# Altium footprint library ertc_footprints.PcbLib: 12 footprints
Each footprint in its own frame and in the unit in brackets; x right, y up, seen from the top. Pads: shape width x height; smd on the part's side, far side on the other; paste and mask are expansions set on the pad; w line width, h text height; cw(c..) or ccw(c..) is an arc to the next point about the centre after c.
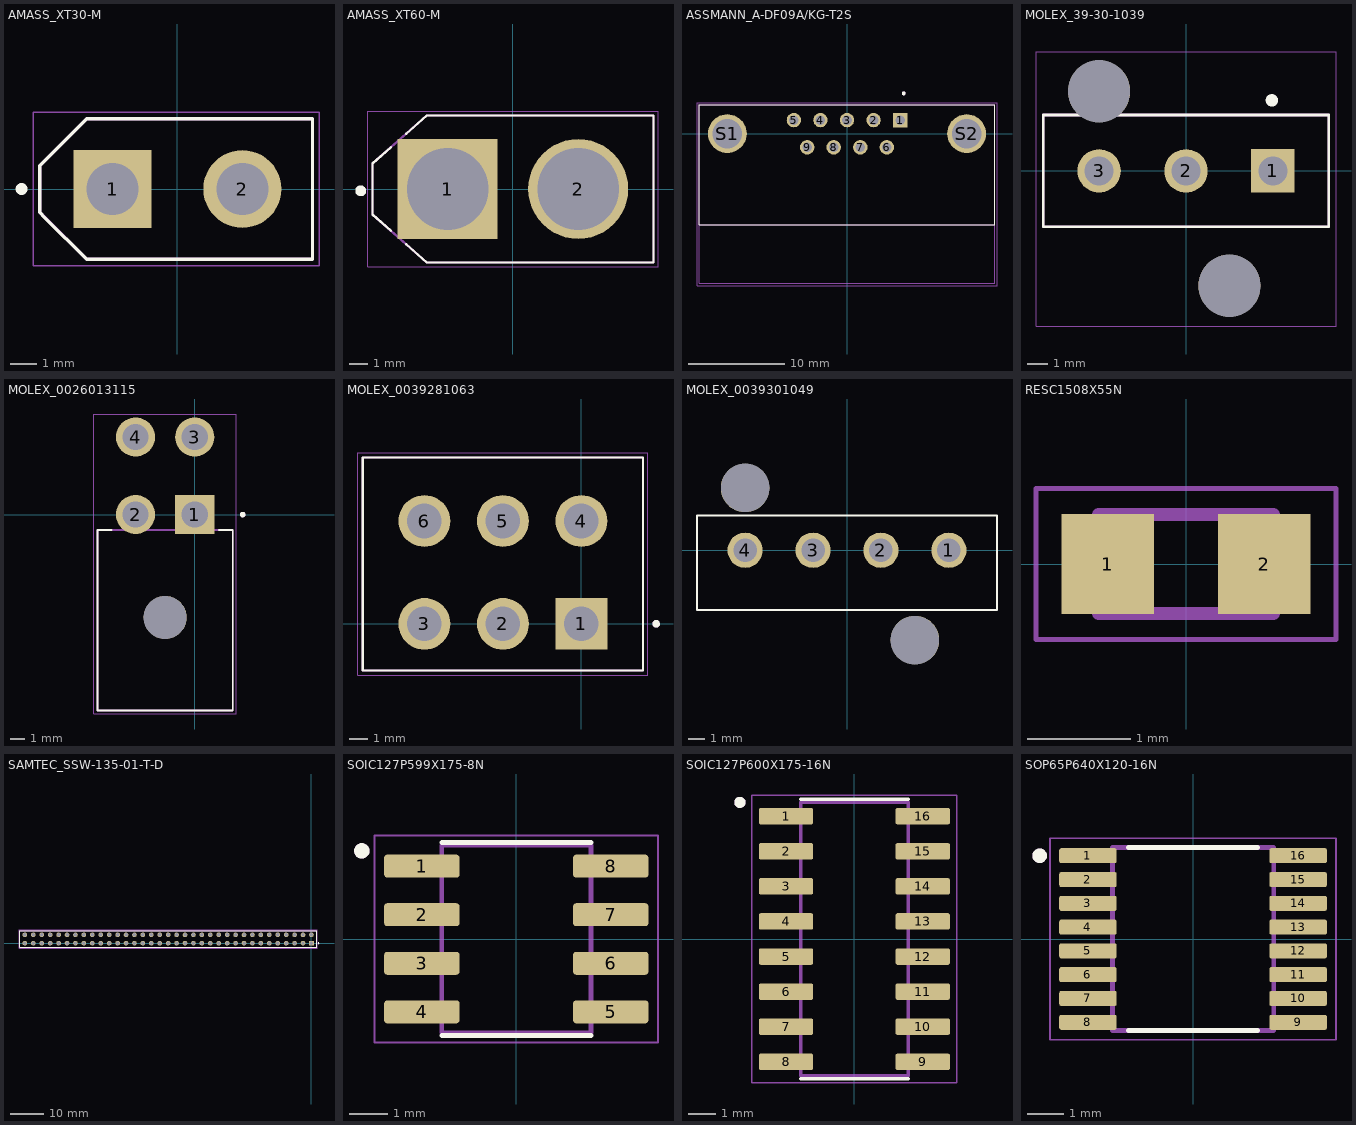
[diagram p0: the footprints below, top view; thin cyan lines are the x and y axes]

## AMASS_XT30-M [mm]
pads (2):
  rect 3x3 hole 2: 1(-2.5,0)
  round 3 hole 2: 2(2.5,0)
Top Overlay:
  circle w0.254: c-6,0 r0.1
  lines w0.127: -5.3,-0.9 -5.3,0.9 -3.5,2.7 5.2,2.7 5.2,-2.7 -3.5,-2.7 -5.1,-1.1 -5.3,-0.9
Mechanical 13:
  lines w0.127: -5.3,-0.9 -5.3,0.9 -3.5,2.7 5.2,2.7 5.2,-2.7 -3.5,-2.7 -5.3,-0.9
Mechanical 15:
  lines w0.05: -5.55,-2.95 -5.55,2.95 5.45,2.95 5.45,-2.95 -5.55,-2.95

## AMASS_XT60-M [mm]
pads (2):
  rect 5.516x5.516 hole 4.5: 1(-3.6,0)
  round 5.516 hole 4.5: 2(3.6,0)
Top Overlay:
  circle w0.3: c-8.4,-0.1 r0.15
  lines w0.127: -6.73,-2.3 -7.75,-1.4 -7.75,1.4 -6.73,2.3 ; -5.88,-3.05 -4.75,-4.05 7.75,-4.05 7.75,4.05 -4.75,4.05 -5.88,3.05
Mechanical 13:
  lines w0.127: -7.75,-1.4 -7.75,1.4 -4.75,4.05 7.75,4.05 7.75,-4.05 -4.75,-4.05 -7.75,-1.4
Mechanical 15:
  lines w0.05: -8,-4.3 -8,4.3 8,4.3 8,-4.3 -8,-4.3

## ASSMANN_A-DF09A/KG-T2S [mm]
pads (11):
  rect 1.508x1.508 hole 1: 1(5.54,1.42)
  round 1.508 hole 1: 2(2.77,1.42) 3(0,1.42) 4(-2.77,1.42) 5(-5.54,1.42) 6(4.155,-1.42) 7(1.385,-1.42) 8(-1.385,-1.42) 9(-4.155,-1.42)
  round 4.066 hole 3.05: S1(-12.495,0) S2(12.495,0)
Top Overlay:
  circle w0.2: c5.92,4.2 r0.1
  lines w0.127: -15.405,-9.5 -15.405,3 15.405,3 15.405,-9.5 -15.405,-9.5
Mechanical 13:
  circle w0.2: c5.92,4.2 r0.1
  lines w0.127: -15.405,-9.5 15.405,-9.5 ; -15.405,-15.6 -15.405,3 15.405,3 15.405,-15.6 -15.405,-15.6
Mechanical 15:
  lines w0.05: -15.655,-15.85 -15.655,3.25 15.655,3.25 15.655,-15.85 -15.655,-15.85
3D body "step_temp.STEP": height 12.55, standoff -4.33, extent -15.405,-15.32 15.405,2.98

## MOLEX_39-30-1039 [mm]
pads (5):
  rect 2.1x2.1 hole 1.4: 1(4.2,0)
  round 2.1 hole 1.4: 2(0,0) 3(-4.2,0)
  round 3 hole 3 unplated: ""(-4.2,3.85) ""(2.1,-5.55)
Top Overlay:
  circle w0.3: c4.15,3.41 r0.15
  lines w0.127: -6.9,-2.7 6.9,-2.7 6.9,2.7 -6.9,2.7 -6.9,-2.7
Mechanical 13:
  lines w0.127: -6.9,-2.7 6.9,-2.7 6.9,2.7 -6.9,2.7 -6.9,-2.7
Mechanical 15:
  lines w0.05: -7.25,-7.5 7.25,-7.5 7.25,5.75 -7.25,5.75 -7.25,-7.5
3D body "39-30-1039.stp": height 12.45, standoff -3.5, extent -6.9,-6.631 6.9,4.928

## MOLEX_0026013115 [mm]
pads (5):
  rect 2.775x2.775 hole 1.85: 1(0,0)
  round 2.775 hole 1.85: 2(-4.2,0) 3(0,5.5) 4(-4.2,5.5)
  round 3.05 hole 3.05 unplated: ""(-2.1,-7.3)
Top Overlay:
  circle w0.2: c3.4,0 r0.1
  lines w0.127: -5.91,-1.1 -6.9,-1.1 -6.9,-13.9 2.7,-13.9 2.7,-1.1 1.71,-1.1
Mechanical 13:
  circle w0.2: c3.4,0 r0.1
  lines w0.127: -6.9,-13.9 -6.9,-1.1 2.7,-1.1 2.7,-13.9 -6.9,-13.9
Mechanical 15:
  lines w0.05: -7.15,-14.15 -7.15,7.14 2.95,7.14 2.95,-14.15 -7.15,-14.15
3D body "0026013115--3DModel-STEP-56544.STEP": height 11.4, standoff -4.36, extent -7.108,-13.894 2.892,6.041

## MOLEX_0039281063 [mm]
pads (6):
  rect 2.775x2.775 hole 1.85: 1(0,0)
  round 2.775 hole 1.85: 2(-4.2,0) 3(-8.4,0) 4(0,5.5) 5(-4.2,5.5) 6(-8.4,5.5)
Top Overlay:
  lines w0.127: -11.7,-2.5 -11.7,8.9 3.3,8.9 3.3,-2.5 -11.7,-2.5
  lines w0.2: 4.089,0.045 ccw(c4,0) 4.1,0
Mechanical 13:
  circle w0.2: c4,0 r0.1
  lines w0.127: -11.7,-2.5 3.3,-2.5 3.3,8.9 -11.7,8.9 -11.7,-2.5
Mechanical 15:
  lines w0.05: -11.95,-2.75 -11.95,9.15 3.55,9.15 3.55,-2.75 -11.95,-2.75
3D body "39281063--3DModel-STEP-390490.STEP": height 12.8, standoff -3.5, extent -11.5,-2.3 3.1,8.7

## MOLEX_0039301049 [mm]
pads (6):
  round 2.175 hole 1.45: 1(6.3,0) 2(2.1,0) 3(-2.1,0) 4(-6.3,0)
  round 3 hole 3 unplated: ""(-6.3,3.85) ""(4.2,-5.55)
Top Overlay:
  lines w0.127: -9.271,-3.683 9.271,-3.683 9.271,2.159 -9.271,2.159 -9.271,-3.683
3D body "39-30-1049.stp": height 12.8, standoff -3.5, extent -9,-6.618 9,4.941

## RESC1508X55N [mm]
pads (2):
  rect 0.9x0.97 smd: 1(-0.76,0) 2(0.76,0)
Mechanical 13:
  lines w0.127: -0.85,-0.48 0.85,-0.48 0.85,0.48 -0.85,0.48 -0.85,-0.48
Mechanical 15:
  lines w0.05: -1.46,-0.735 1.46,-0.735 1.46,0.735 -1.46,0.735 -1.46,-0.735
3D body "RMCF0603FT60R4.STEP": height 0.55, standoff 0, extent -0.775,-0.4 0.775,0.4

## SAMTEC_SSW-135-01-T-D [mm]
pads (70):
  rect 1.39x1.39 hole 1.04: 01(0,0)
  round 1.39 hole 1.04: 02(0,2.54) 03(-2.54,0) 04(-2.54,2.54) 05(-5.08,0) 06(-5.08,2.54) 07(-7.62,0) 08(-7.62,2.54) 09(-10.16,0) 10(-10.16,2.54) 11(-12.7,0) 12(-12.7,2.54) 13(-15.24,0) 14(-15.24,2.54) 15(-17.78,0) 16(-17.78,2.54) 17(-20.32,0) 18(-20.32,2.54) 19(-22.86,0) 20(-22.86,2.54) 21(-25.4,0) 22(-25.4,2.54) 23(-27.94,0) 24(-27.94,2.54) 25(-30.48,0) 26(-30.48,2.54) 27(-33.02,0) 28(-33.02,2.54) 29(-35.56,0) 30(-35.56,2.54) 31(-38.1,0) 32(-38.1,2.54) 33(-40.64,0) 34(-40.64,2.54) 35(-43.18,0) 36(-43.18,2.54) 37(-45.72,0) 38(-45.72,2.54) 39(-48.26,0) 40(-48.26,2.54) 41(-50.8,0) 42(-50.8,2.54) 43(-53.34,0) 44(-53.34,2.54) 45(-55.88,0) 46(-55.88,2.54) 47(-58.42,0) 48(-58.42,2.54) 49(-60.96,0) 50(-60.96,2.54) 51(-63.5,0) 52(-63.5,2.54) 53(-66.04,0) 54(-66.04,2.54) 55(-68.58,0) 56(-68.58,2.54) 57(-71.12,0) 58(-71.12,2.54) 59(-73.66,0) 60(-73.66,2.54) 61(-76.2,0) 62(-76.2,2.54) 63(-78.74,0) 64(-78.74,2.54) 65(-81.28,0) 66(-81.28,2.54) 67(-83.82,0) 68(-83.82,2.54) 69(-86.36,0) 70(-86.36,2.54)
Top Overlay:
  circle w0.2: c2.175,0 r0.1
  lines w0.2: -87.885,-1.206 1.525,-1.206 1.525,3.746 -87.885,3.746 -87.885,-1.206
Mechanical 13:
  circle w0.2: c2.175,0 r0.1
  lines w0.1: -87.885,-1.206 -87.885,3.746 ; -87.885,-1.206 1.525,-1.206 ; -87.885,-1.206 -87.885,3.746 ; -87.885,3.746 1.525,3.746 ; -87.885,3.746 1.525,3.746 ; 1.525,-1.206 1.525,3.746 ; 1.525,-1.206 1.525,3.746
Mechanical 15:
  lines w0.05: -88.135,-1.456 1.775,-1.456 1.775,3.996 -88.135,3.996 -88.135,-1.456
3D body "SSW-135-01-T-D.stp": height 8.51, standoff -2.64, extent -87.884,-1.206 1.524,3.746

## SOIC127P599X175-8N [mm]
pads (8):
  rrect25% 1.97x0.6 smd: 1(-2.47,1.905) 2(-2.47,0.635) 3(-2.47,-0.635) 4(-2.47,-1.905) 5(2.47,-1.905) 6(2.47,-0.635) 7(2.47,0.635) 8(2.47,1.905)
Top Overlay:
  circle w0.2: c-4.04,2.305 r0.1
  lines w0.127: -1.95,-2.525 1.95,-2.525 ; -1.95,2.525 1.95,2.525
Mechanical 13:
  circle w0.2: c-4.04,2.305 r0.1
  lines w0.127: -1.95,-2.452 -1.95,2.452 1.95,2.452 1.95,-2.452 -1.95,-2.452
Mechanical 15:
  lines w0.05: -3.705,-2.702 -3.705,2.702 3.705,2.702 3.705,-2.702 -3.705,-2.702
3D body "SN65HVD230DR.STEP": height 1.75, standoff 0, extent -3,-2.45 3,2.45

## SOIC127P600X175-16N [mm]
pads (16):
  rrect25% 1.97x0.6 smd: 1(-2.475,4.445) 2(-2.475,3.175) 3(-2.475,1.905) 4(-2.475,0.635) 5(-2.475,-0.635) 6(-2.475,-1.905) 7(-2.475,-3.175) 8(-2.475,-4.445) 9(2.475,-4.445) 10(2.475,-3.175) 11(2.475,-1.905) 12(2.475,-0.635) 13(2.475,0.635) 14(2.475,1.905) 15(2.475,3.175) 16(2.475,4.445)
Top Overlay:
  circle w0.2: c-4.145,4.945 r0.1
  lines w0.127: -1.95,-5.065 1.95,-5.065 ; -1.95,5.065 1.95,5.065
Mechanical 13:
  circle w0.2: c-4.145,4.945 r0.1
  lines w0.127: -1.95,-4.95 -1.95,4.95 1.95,4.95 1.95,-4.95 -1.95,-4.95
Mechanical 15:
  lines w0.05: -3.71,-5.2 -3.71,5.2 3.71,5.2 3.71,-5.2 -3.71,-5.2
3D body "step_temp.STEP": height 1.75, standoff 0, extent -3,-4.95 3,4.95

## SOP65P640X120-16N [mm]
pads (16):
  rrect25% 1.57x0.41 smd: 1(-2.87,2.275) 2(-2.87,1.625) 3(-2.87,0.975) 4(-2.87,0.325) 5(-2.87,-0.325) 6(-2.87,-0.975) 7(-2.87,-1.625) 8(-2.87,-2.275) 9(2.87,-2.275) 10(2.87,-1.625) 11(2.87,-0.975) 12(2.87,-0.325) 13(2.87,0.325) 14(2.87,0.975) 15(2.87,1.625) 16(2.87,2.275)
Top Overlay:
  circle w0.2: c-4.19,2.275 r0.1
  lines w0.127: -1.765,-2.5 1.765,-2.5 ; -1.765,2.5 1.765,2.5
Mechanical 13:
  circle w0.2: c-4.19,2.275 r0.1
  lines w0.127: -2.2,-2.5 -2.2,2.5 2.2,2.5 2.2,-2.5 -2.2,-2.5
Mechanical 15:
  lines w0.05: -3.905,-2.75 -3.905,2.75 3.905,2.75 3.905,-2.75 -3.905,-2.75
3D body "MAX3221EIPWR.STEP": height 1.2, standoff 0, extent -3.2,-2.5 3.2,2.5